# Altium footprint library TMDE_REV1.0.PcbLib: 84 footprints (part 5 of 6)
Each footprint in its own frame and in the unit in brackets; x right, y up, seen from the top. Pads: shape width x height; smd on the part's side, far side on the other; paste and mask are expansions set on the pad; w line width, h text height; cw(c..) or ccw(c..) is an arc to the next point about the centre after c.
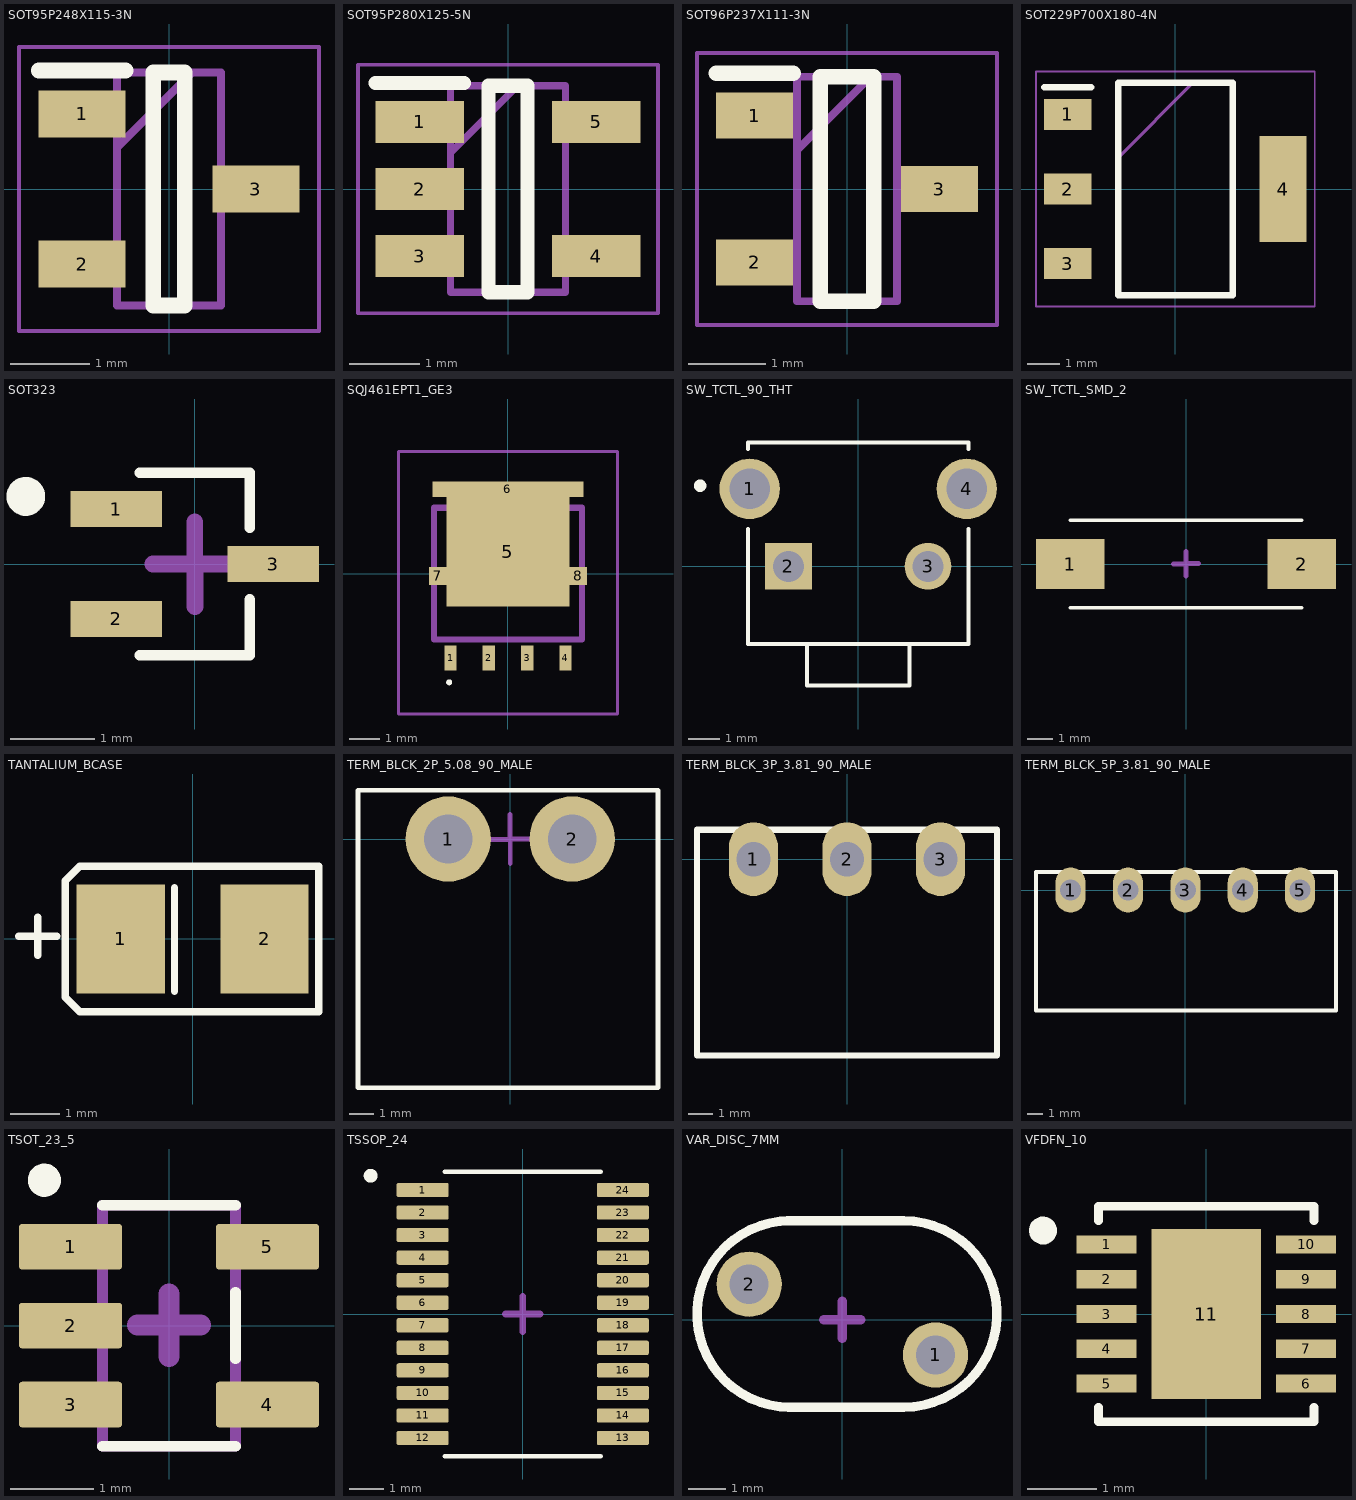
[diagram p4: the footprints below, top view; thin cyan lines are the x and y axes]

## SOT95P248X115-3N [mm]
pads (3):
  rect 1.1x0.6 smd: 1(-1.1,0.95) 2(-1.1,-0.95) 3(1.1,0)
Top Overlay:
  lines w0.2: -1.65,1.5 -0.55,1.5 ; -0.2,-1.475 0.2,-1.475 0.2,1.475 -0.2,1.475 -0.2,-1.475
Mechanical 13:
  lines w0.1: -0.658,0.525 0.292,1.475 ; -0.658,-1.475 0.658,-1.475 0.658,1.475 -0.658,1.475 -0.658,-1.475
Mechanical 15:
  lines w0.05: -1.9,-1.8 1.9,-1.8 1.9,1.8 -1.9,1.8 -1.9,-1.8
3D body "BZX84B9V1-E3-08.stp": height 1.15, standoff 0, extent -1.238,-1.475 1.238,1.475

## SOT95P280X125-5N [mm]
pads (5):
  rect 1.25x0.6 smd: 1(-1.25,0.95) 2(-1.25,0) 3(-1.25,-0.95) 4(1.25,-0.95) 5(1.25,0.95)
Top Overlay:
  lines w0.2: -1.875,1.5 -0.625,1.5 ; -0.275,-1.463 0.275,-1.463 0.275,1.463 -0.275,1.463 -0.275,-1.463
Mechanical 13:
  lines w0.1: -0.813,0.513 0.137,1.463 ; -0.813,-1.463 0.813,-1.463 0.813,1.463 -0.813,1.463 -0.813,-1.463
Mechanical 15:
  lines w0.05: -2.125,-1.763 2.125,-1.763 2.125,1.763 -2.125,1.763 -2.125,-1.763
3D body "DIO7002AST5.stp": height 1.25, standoff 0, extent -1.4,-1.463 1.4,1.463

## SOT96P237X111-3N [mm]
pads (3):
  rect 1x0.6 smd: 1(-1.2,0.955) 2(-1.2,-0.955) 3(1.2,0)
Top Overlay:
  lines w0.2: -1.7,1.505 -0.7,1.505 ; -0.35,-1.46 -0.35,1.46 0.35,1.46 0.35,-1.46 -0.35,-1.46
Mechanical 13:
  lines w0.1: -0.65,0.505 0.305,1.46 ; -0.65,-1.46 -0.65,1.46 0.65,1.46 0.65,-1.46 -0.65,-1.46
Mechanical 15:
  lines w0.05: -1.95,-1.77 -1.95,1.77 1.95,1.77 1.95,-1.77 -1.95,-1.77
3D body "BZX84C3V3LT1G.stp": height 1.11, standoff 0, extent -1.185,-1.46 1.185,1.46

## SOT229P700X180-4N [mm]
pads (4):
  rect 1.45x0.95 smd: 1(-3.3,2.29) 2(-3.3,0) 3(-3.3,-2.29)
  rect 1.45x3.25 smd: 4(3.3,0)
Top Overlay:
  lines w0.2: -4.025,3.115 -2.575,3.115 ; -1.752,-3.252 1.752,-3.252 1.752,3.252 -1.752,3.252 -1.752,-3.252
Mechanical 13:
  lines w0.1: -1.752,0.962 0.538,3.252 ; -1.752,-3.252 1.752,-3.252 1.752,3.252 -1.752,3.252 -1.752,-3.252
Mechanical 15:
  lines w0.05: -4.275,-3.605 4.275,-3.605 4.275,3.605 -4.275,3.605 -4.275,-3.605
3D body "AMS1117-3.3.stp": height 1.8, standoff 0, extent -3.355,-3.15 3.355,3.15

## SOT323 [mm]
pads (3):
  rect 1.08x0.43 smd: 1(-0.93,0.65) 2(-0.93,-0.65) 3(0.93,0)
Top Overlay:
  circle w0.3: c-2,0.8 r0.08
  lines w0.127: -0.65,-1.08 0.65,-1.08 0.65,-0.42 ; -0.65,1.08 0.65,1.08 0.65,0.43
Mechanical 16:
  lines w0.2: -0.497,-0.001 0.003,-0.001 ; 0,0 0,0.5 ; 0.001,-0.501 0.001,-0.001 0.501,-0.001
3D body "step_temp.STEP": height 1.1, standoff 0, extent -1.05,-1.075 1.05,1.075

## SQJ461EPT1_GE3 [mm]
pads (8):
  rect 0.41x0.82 smd: 1(-1.905,-2.792) 2(-0.635,-2.792) 3(0.635,-2.792) 4(1.905,-2.792)
  rect 4.061x3.63 smd: 5(0,0.724)
  rect 5x0.51 smd: 6(0,2.792)
  rect 0.595x0.61 smd: 7(-2.328,-0.076) 8(2.328,-0.076)
Top Overlay:
  lines w0.1: -2,-3.6 cw(c-1.95,-3.6) -1.9,-3.6 cw(c-1.95,-3.6) -2,-3.6
Mechanical 13:
  lines w0.2: -2.45,-2.185 -2.45,2.185 2.45,2.185 2.45,-2.185 -2.45,-2.185
Mechanical 15:
  lines w0.1: -3.625,-4.65 -3.625,4.048 3.626,4.048 3.626,-4.65 -3.625,-4.65

## SW_TCTL_90_THT [mm]
pads (4):
  round 1.95 hole 1.3: 1(-3.5,2.5) 4(3.5,2.5)
  rect 1.508x1.508 hole 1: 2(-2.25,0)
  round 1.508 hole 1: 3(2.25,0)
Top Overlay:
  circle w0.2: c-5.1,2.6 r0.1
  lines w0.127: -3.55,1.212 -3.55,-2.5 -1.65,-2.5 ; -3.55,3.788 -3.55,4 3.55,4 3.55,3.788 ; 3.55,1.212 3.55,-2.5 1.65,-2.5 ; -1.65,-2.5 1.65,-2.5 ; -1.65,-2.5 -1.65,-3.85 1.65,-3.85 1.65,-2.5
3D body "step_temp.STEP": height 8.3, standoff -2.7, extent -4.201,-3.913 4.201,3.937

## SW_TCTL_SMD_2 [mm]
pads (2):
  rect 2.75x2 smd paste+0 mask+0: 1(-4.625,0) 2(4.625,0)
Top Overlay:
  lines w0.152: -4.625,-1.75 4.625,-1.75 ; -4.625,1.75 4.625,1.75
Mechanical 16:
  lines w0.2: -0.5,0 0,0 0,0.5 ; 0.003,0.018 0.503,0.018 ; 0.01,-0.482 0.01,0.018
3D body "c-1437566-4-c-3d.stp": height 4.5, standoff 0.09, extent -4.81,-1.85 5.16,1.65

## TANTALIUM_BCASE [mm]
pads (2):
  rect 1.79x2.21 smd: 1(-1.46,0) 2(1.46,0)
Top Overlay:
  lines w0.152: -3.526,0.055 -2.764,0.055 ; -3.145,-0.326 -3.145,0.436 ; -0.369,-1.059 -0.369,1.041 ; -2.589,-1.183 -2.29,-1.482 2.558,-1.482 2.558,1.48 -2.294,1.48 -2.589,1.185 -2.589,-1.183
3D body "step_temp.STEP": height 2.1, standoff 0, extent -1.75,-1.4 1.75,1.4

## TERM_BLCK_2P_5.08_90_MALE [mm]
pads (2):
  round 3.5 hole 2: 1(-2.54,0) 2(2.54,0)
Top Overlay:
  lines w0.2: -6.24,-10.2 6.06,-10.2 6.06,2 -6.24,2 -6.24,-10.2
Mechanical 16:
  lines w0.2: -1,-0.014 0,-0.014 ; -0.015,0.002 -0.015,1.002 ; 0,-1.007 0,-0.007 ; 0,0 1,0
3D body "691313510002.stp": height 8.95, standoff -3.05, extent -6.201,-10.144 5.959,1.856

## TERM_BLCK_3P_3.81_90_MALE [mm]
pads (3):
  oval 2x3 hole 1.4: 1(-3.81,0) 2(0,0) 3(3.81,0)
Top Overlay:
  lines w0.254: -6.11,1.19 -6.11,-8 6.11,-8 6.11,1.2 -6.11,1.2
Mechanical 16:
  lines w0.2: 3.01,0 3.81,0 3.81,0.8 ; 3.808,0.017 4.608,0.017 ; 3.813,-0.783 3.813,0.017
3D body "15EDGRC-3.81-02P-14-00A(H).stp": height 7.29, standoff -3.35, extent -2.3,-8.127 6.11,1.073
3D body "15EDGRC-3.81-02P-14-00A(H).stp": height 7.29, standoff -3.35, extent -5.975,-8.127 2.435,1.073

## TERM_BLCK_5P_3.81_90_MALE [mm]
pads (5):
  oval 2x3 hole 1.4: 1(-7.62,0) 2(-3.81,0) 3(0,0) 4(3.81,0) 5(7.62,0)
Top Overlay:
  lines w0.254: -9.92,1.19 -9.92,-8 9.999,-8 9.999,1.2 -9.92,1.2
Mechanical 16:
  lines w0.2: -0.8,0 0,0 0,0.8 ; -0.002,0.017 0.798,0.017 ; 0.003,-0.783 0.003,0.017
3D body "15EDGRC-3.81-02P-14-00A(H).stp": height 7.29, standoff -3.35, extent -9.785,-8.127 -1.375,1.073
3D body "15EDGRC-3.81-02P-14-00A(H).stp": height 7.29, standoff -3.35, extent -2.275,-8.127 6.135,1.073
3D body "15EDGRC-3.81-02P-14-00A(H).stp": height 7.29, standoff -3.35, extent 1.515,-8.127 9.925,1.073

## TSOT_23_5 [mm]
pads (5):
  rrect14% 1.24x0.55 smd: 1(-1.185,0.95) 2(-1.185,0) 3(-1.185,-0.95) 4(1.185,-0.95) 5(1.185,0.95)
Top Overlay:
  circle w0.2: c-1.5,1.75 r0.1
  lines w0.127: -0.8,-1.45 0.8,-1.45 ; -0.8,1.45 0.8,1.45 ; 0.8,-0.4 0.8,0.4
Mechanical 13:
  lines w0.127: -0.8,-1.45 0.8,-1.45 0.8,1.45 -0.8,1.45 -0.8,-1.45
Mechanical 16:
  lines w0.254: -0.377,0.005 0.004,0.005 ; -0.004,0.005 0.377,0.005 ; 0,-0.372 0,0.009 ; 0,0 0,0.381
3D body "TSOT25-L2H_DIO.step": height 0.99, standoff 0, extent -1.397,-1.448 1.397,1.448

## TSSOP_24 [mm]
pads (24):
  rrect25% 1.5x0.41 smd: 1(-2.885,3.575) 2(-2.885,2.925) 3(-2.885,2.275) 4(-2.885,1.625) 5(-2.885,0.975) 6(-2.885,0.325) 7(-2.885,-0.325) 8(-2.885,-0.975) 9(-2.885,-1.625) 10(-2.885,-2.275) 11(-2.885,-2.925) 12(-2.885,-3.575) 13(2.885,-3.575) 14(2.885,-2.925) 15(2.885,-2.275) 16(2.885,-1.625) 17(2.885,-0.975) 18(2.885,-0.325) 19(2.885,0.325) 20(2.885,0.975) 21(2.885,1.625) 22(2.885,2.275) 23(2.885,2.925) 24(2.885,3.575)
Top Overlay:
  circle w0.2: c-4.385,3.985 r0.1
  lines w0.127: -2.25,-4.1 2.25,-4.1 ; -2.25,4.1 2.25,4.1
Mechanical 16:
  lines w0.2: -0.5,0 0,0 ; 0,-0.5 0,0 ; 0,0.5 0,0 ; 0.003,0.001 0.503,0.001
3D body "step_temp.STEP": height 1.1, standoff 0, extent -3.2,-3.9 3.2,3.9

## VAR_DISC_7MM [mm]
pads (2):
  round 1.75 hole 1.05: 1(2.5,-0.95) 2(-2.5,0.95)
Top Overlay:
  lines w0.254: -1.475,2.65 1.65,2.65 cw(c1.65,0.15) 1.65,-2.35 -1.45,-2.35 ; -1.4,-2.35 cw(c-1.4,0.15) -1.4,2.65
Mechanical 16:
  lines w0.254: -0.503,-0.007 -0.003,-0.007 -0.003,0.493 ; 0,-0.503 0,-0.003 ; 0,0 0.5,0
3D body "Varistor VAR-07.stp": height 8.99, standoff -2.5, extent -3.999,-1.96 3.999,1.94

## VFDFN_10 [mm]
pads (11):
  rect 0.86x0.26 smd: 1(-1.435,1) 2(-1.435,0.5) 3(-1.435,0) 4(-1.435,-0.5) 5(-1.435,-1) 6(1.435,-1) 7(1.435,-0.5) 8(1.435,0) 9(1.435,0.5) 10(1.435,1)
  rect 1.575x2.45 smd paste-2: 11(0,0)
Top Overlay:
  circle w0.2: c-2.35,1.2 r0.1
  lines w0.127: -1.55,-1.345 -1.55,-1.55 1.55,-1.55 1.55,-1.345 ; -1.55,1.345 -1.55,1.55 1.55,1.55 1.55,1.345
Top Paste:
  region: 0.5,-0.802 -0.501,-0.802 -0.501,0.8 0.5,0.8
Mechanical 16:
  lines w0.2: -0.198,0.007 0.002,0.007 ; -0.004,0.012 0.196,0.012 ; -0.001,-0.19 -0.001,0.01 ; 0,0 0,0.2
3D body "MIC69103YML-TR--3DModel-STEP-56544.STEP": height 0.9, standoff 0, extent -1.5,-1.5 1.5,1.5